# Altium footprint library Bourns  Resistor Arrays.PcbLib: 1 footprints
Each footprint in its own frame and in the unit in brackets; x right, y up, seen from the top. Pads: shape width x height; smd on the part's side, far side on the other; paste and mask are expansions set on the pad; w line width, h text height; cw(c..) or ccw(c..) is an arc to the next point about the centre after c.
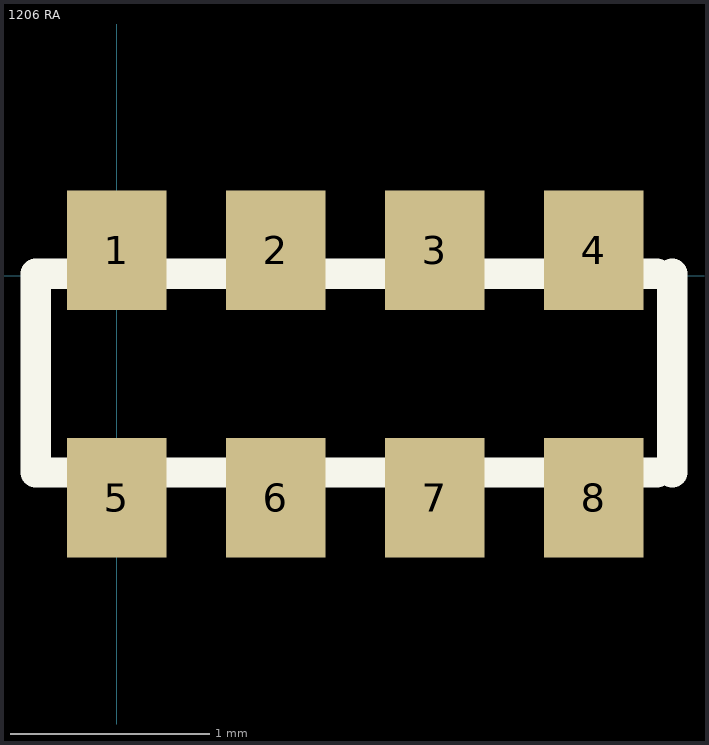
[diagram p0: the footprint, top view; thin cyan lines are the x and y axes]

## 1206 RA [mm]
pads (8):
  rect 0.5x0.6 smd: 1(0,0.127) 2(0.8,0.127) 3(1.6,0.127) 4(2.4,0.127) 5(0,-1.118) 6(0.8,-1.118) 7(1.6,-1.118) 8(2.4,-1.118)
Top Overlay:
  lines w0.152: 2.718,-0.991 -0.406,-0.991 -0.406,0.009 2.718,0.009 ; 2.794,-0.991 2.794,0.009
3D body "User Library-Array-1206-4Way-Var2-1.STEP": height 0.5, standoff 0, extent -0.406,-1.308 2.794,0.292